# EAGLE library part M41ST95W (library st-microelectronics)
Serial RTC (SPI) SRAM and NVRAM Supervisor 5.0 or 3.0V, 512 bit (64 bit x8)
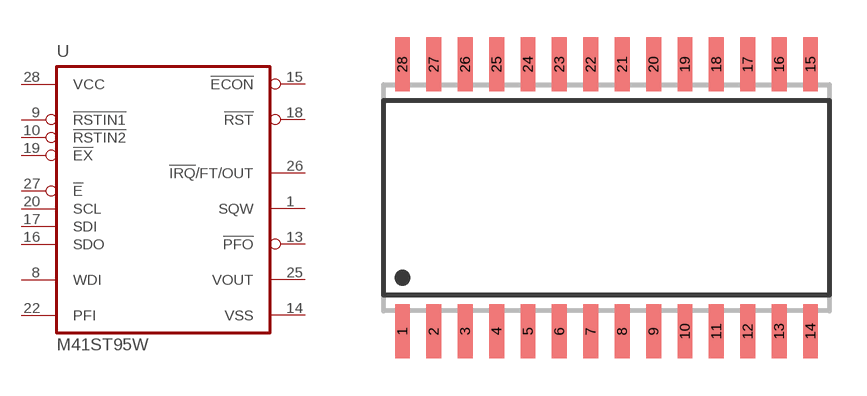
[diagram p32: symbol with the pads of SO28X; footprint SO28X]

Designator prefix U

## M41ST95W  [SO28X]
1  SQW  out
8  WDI  in
9  !RSTIN1!  in
10  !RSTIN2!  in
13  !PFO!  out
14  VSS  pwr
15  !ECON!  out
16  SDO  out
17  SDI  in
18  !RST!  oc
19  !EX!  in
20  SCL  in
22  PFI  in
25  VOUT  out
26  !IRQ!/FT/OUT  oc
27  !E!  in
28  VCC  pwr

## Footprint SO28X (pad centres in mm)
SMALL OUTLINE INTEGRATED CIRCUIT extra wide body 8.9 mm/JEDEC MO-120AB
smd 0.6 x 2.2: 1 -8.255,-5.4; 2 -6.985,-5.4; 3 -5.715,-5.4; 4 -4.445,-5.4; 5 -3.175,-5.4; 6 -1.905,-5.4; 7 -0.635,-5.4; 8 0.635,-5.4; 9 1.905,-5.4; 10 3.175,-5.4; 11 4.445,-5.4; 12 5.715,-5.4; 13 6.985,-5.4; 14 8.255,-5.4; 15 8.255,5.4; 16 6.985,5.4; 17 5.715,5.4; 18 4.445,5.4; 19 3.175,5.4; 20 1.905,5.4; 21 0.635,5.4; 22 -0.635,5.4; 23 -1.905,5.4; 24 -3.175,5.4; 25 -4.445,5.4; 26 -5.715,5.4; 27 -6.985,5.4; 28 -8.255,5.4